# Altium schematic symbol library SamacSys.SchLib: 10 symbols
Pins are listed as number, name and electrical type; pins without a type are passive.

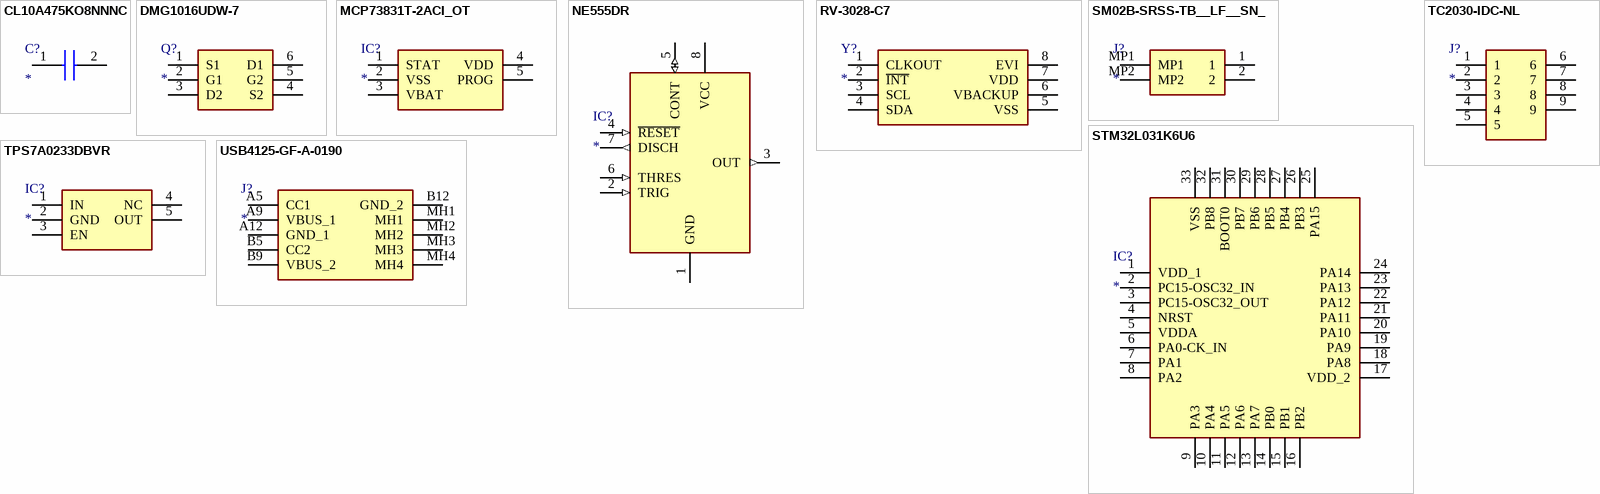
[diagram p0: symbols CL10A475KO8NNNC to USB4125-GF-A-0190]

## CL10A475KO8NNNC
designator C?
Capacitor; Manufacturer_Name: SAMSUNG; Manufacturer_Part_Number: CL10A475KO8NNNC; Description: SAMSUNG ELECTRO-MECHANICS - CL10A475KO8NNNC - SMD Multilayer Ceramic Capacitor; Datasheet Link: https://rs.componentsearchengine.com/Datasheets/2/CL10A475KO8NNNC.pdf; Height: 0.9mm; Mouser Part Number: 187-CL10A475KO8NNNC; Mouser Price/Stock: https://www.mouser.co.uk/ProductDetail/Samsung-Electro-Mechanics/CL10A475KO8NNNC?qs=X6jEic%2FHinAbIjmLnFfqqQ%3D%3D; Arrow Part Number: CL10A475KO8NNNC; Arrow Price/Stock: https://www.arrow.com/en/products/cl10a475ko8nnnc/samsung-electro-mechanics.html?utm_currency=USD&region=nac
footprint CAPC1608X90N
pins: 1, 2

## DMG1016UDW-7
designator Q?
Transistor; Manufacturer_Name: Diodes Incorporated; Manufacturer_Part_Number: DMG1016UDW-7; Datasheet Link: https://www.diodes.com//assets/Datasheets/DMG1016UDW.pdf; Height: 1.1mm; Mouser Part Number: 621-DMG1016UDW-7; Mouser Price/Stock: https://www.mouser.co.uk/ProductDetail/Diodes-Incorporated/DMG1016UDW-7?qs=GWgl%252BsiMZr8KoDu9h3LKlQ%3D%3D; Arrow Part Number: DMG1016UDW-7; Arrow Price/Stock: https://www.arrow.com/en/products/dmg1016udw-7/diodes-incorporated?utm_currency=USD&region=europe
footprint SOT65P210X110-6N
pins: 1 S1, 2 G1, 3 D2, 4 S2, 5 G2, 6 D1

## MCP73831T-2ACI_OT
designator IC?
Integrated Circuit; Manufacturer_Name: Microchip; Manufacturer_Part_Number: MCP73831T-2ACI/OT; Datasheet Link: http://ww1.microchip.com/downloads/en/DeviceDoc/20001984g.pdf; Height: 1.45mm; Mouser Part Number: 579-MCP73831T-2ACIOT; Mouser Price/Stock: https://www.mouser.co.uk/ProductDetail/Microchip-Technology/MCP73831T-2ACI-OT?qs=yUQqVecv4qvbBQBGbHx0Mw%3D%3D; Arrow Part Number: MCP73831T-2ACI/OT; Arrow Price/Stock: https://www.arrow.com/en/products/mcp73831t-2aci-ot/microchip-technology.html?utm_currency=USD&region=nac
footprint SOT95P270X145-5N
pins: 1 STAT, 2 VSS, 3 VBAT, 4 VDD, 5 PROG

## NE555DR
designator IC?
Integrated Circuit; Manufacturer_Name: Texas Instruments; Manufacturer_Part_Number: NE555DR; Datasheet Link: http://www.ti.com/lit/ds/symlink/ne555.pdf; Height: 1.75mm; Mouser Part Number: 595-NE555DR; Mouser Price/Stock: https://www.mouser.com/Search/Refine.aspx?Keyword=595-NE555DR; RS Part Number: 1218414; RS Price/Stock: http://uk.rs-online.com/web/p/products/1218414
footprint SOIC127P600X175-8N (Footprint not found)
pins: 1 GND (power), 2 TRIG (in), 3 OUT (out), 4 ~{RESET} (in), 5 CONT (io), 6 THRES (in), 7 DISCH (out), 8 VCC (power)

## RV-3028-C7
designator Y?
Crystal or Oscillator; Manufacturer_Name: Micro Crystal AG; Manufacturer_Part_Number: RV-3028-C7; Datasheet Link: https://www.microcrystal.com/fileadmin/Media/Products/RTC/Datasheet/RV-3028-C7.pdf; Height: 0.8mm
footprint RV3028C732768kHz1ppmTAQC
pins: 1 CLKOUT, 2 ~{INT}, 3 SCL, 4 SDA, 5 VSS, 6 VBACKUP, 7 VDD, 8 EVI

## SM02B-SRSS-TB__LF__SN_
designator J?
Connector; Manufacturer_Name: JST (JAPAN SOLDERLESS TERMINALS); Manufacturer_Part_Number: SM02B-SRSS-TB (LF)(SN); Description: JST (JAPAN SOLDERLESS TERMINALS) - SM02B-SRSS-TB (LF)(SN) - HEADER; Datasheet Link: https://www.jst-mfg.com/product/pdf/eng/eSH.pdf; Height: 2.9mm
footprint SM02BSRSSTBLFSN
pins: 1, 2, MP1, MP2

## STM32L031K6U6
designator IC?
Integrated Circuit; Manufacturer_Name: STMicroelectronics; Manufacturer_Part_Number: STM32L031K6U6; Datasheet Link: https://www.st.com/resource/en/datasheet/stm32l031g4.pdf; Height: 0.6mm; Mouser Part Number: 511-STM32L031K6U6; Mouser Price/Stock: https://www.mouser.co.uk/ProductDetail/STMicroelectronics/STM32L031K6U6?qs=U58vgkJzipQU%2FBNiv87OVQ%3D%3D; Arrow Part Number: STM32L031K6U6; Arrow Price/Stock: https://www.arrow.com/en/products/stm32l031k6u6/stmicroelectronics?utm_currency=USD&region=nac
footprint QFN50P500X500X60-33N-D
pins: 1 VDD_1, 2 PC15-OSC32_IN, 3 PC15-OSC32_OUT, 4 NRST, 5 VDDA, 6 PA0-CK_IN, 7 PA1, 8 PA2, 9 PA3, 10 PA4, 11 PA5, 12 PA6, 13 PA7, 14 PB0, 15 PB1, 16 PB2, 17 VDD_2, 18 PA8, 19 PA9, 20 PA10, 21 PA11, 22 PA12, 23 PA13, 24 PA14, 25 PA15, 26 PB3, 27 PB4, 28 PB5, 29 PB6, 30 PB7, 31 BOOT0, 32 PB8, 33 VSS

## TC2030-IDC-NL
designator J?
Connector; Manufacturer_Name: Tag Connect; Manufacturer_Part_Number: TC2030-IDC-NL; Description: 6-PIN PLUG-OF-NAILS CABLE 6"; Height: 18.669mm
footprint TC2030IDCNL
pins: 1, 2, 3, 4, 5, 6, 7, 8, 9

## TPS7A0233DBVR
designator IC?
Integrated Circuit; Manufacturer_Name: Texas Instruments; Manufacturer_Part_Number: TPS7A0233DBVR; Datasheet Link: https://www.ti.com/lit/gpn/tps7a02; Height: 1.45mm; Mouser Part Number: 595-TPS7A0233DBVR; Mouser Price/Stock: https://www.mouser.co.uk/ProductDetail/Texas-Instruments/TPS7A0233DBVR?qs=QNEnbhJQKvZidySW4FDctA%3D%3D; Arrow Part Number: TPS7A0233DBVR; Arrow Price/Stock: https://www.arrow.com/en/products/tps7a0233dbvr/texas-instruments.html?utm_currency=USD&region=nac
footprint SOT95P280X145-5N
pins: 1 IN, 2 GND, 3 EN, 4 NC, 5 OUT

## USB4125-GF-A-0190
designator J?
Connector; Manufacturer_Name: GCT (GLOBAL CONNECTOR TECHNOLOGY); Manufacturer_Part_Number: USB4125-GF-A-0190; Description: USB Connectors USB C Rec GF RA 6P SMT TH Stakes 1.9mm; Datasheet Link: https://eu.mouser.com/datasheet/2/837/usb4125-2448699.pdf; Mouser Part Number: 640-USB4125-GF-A-190; Mouser Price/Stock: https://www.mouser.co.uk/ProductDetail/GCT/USB4125-GF-A-0190?qs=QNEnbhJQKvbCz4hEJBS24w%3D%3D
footprint USB4125GFA0190
pins: A5 CC1, A9 VBUS_1, A12 GND_1, B5 CC2, B9 VBUS_2, B12 GND_2, MH1, MH2, MH3, MH4